# EAGLE library part NRF5340 (library balto)
NRF5340
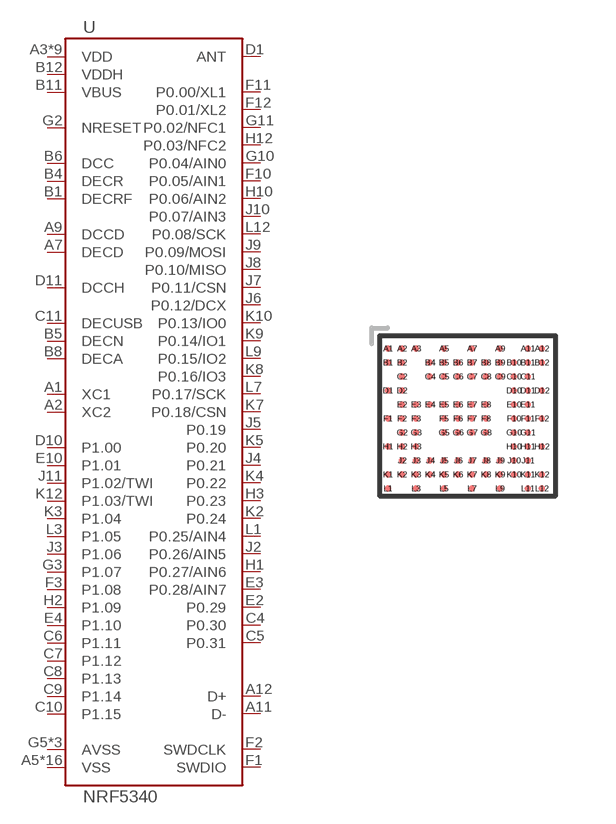
[diagram p85: symbol with the pads of NRF5340-WLCSP; footprint NRF5340-WLCSP]

Designator prefix U

## NRF5340-CLAA  [NRF5340-WLCSP]
A1  XC1
A2  XC2
A3  VDD
A5  VSS
A7  DECD
A9  DCCD
A11  D-
A12  D+
B1  DECRF
B2  VSS
B4  DECR
B5  DECN
B6  DCC
B7  VDD
B8  DECA
B9  VSS
B10  VDD
B11  VBUS
B12  VDDH
C2  VSS
C4  P0.30
C5  P0.31
C6  P1.11
C7  P1.12
C8  P1.13
C9  P1.14
C10  P1.15
C11  DECUSB
D1  ANT
D2  VDD
D10  P1.00
D11  DCCH
D12  VSS
E2  P0.29
E3  P0.28/AIN7
E4  P1.10
E5  VSS
E6  VSS
E7  VSS
E8  VSS
E10  P1.01
E11  VDD
F1  SWDIO
F2  SWDCLK
F3  P1.08
F5  VSS
F6  VSS
F7  VSS
F8  VSS
F10  P0.05/AIN1
F11  P0.00/XL1
F12  P0.01/XL2
G2  NRESET
G3  P1.07
G5  AVSS
G6  VSS
G7  VSS
G8  VSS
G10  P0.04/AIN0
G11  P0.02/NFC1
H1  P0.27/AIN6
H2  P1.09
H3  P0.23
H10  P0.06/AIN2
H11  VDD
H12  P0.03/NFC2
J2  P0.26/AIN5
J3  P1.06
J4  P0.21
J5  P0.19
J6  P0.12/DCX
J7  P0.11/CSN
J8  P0.10/MISO
J9  P0.09/MOSI
J10  P0.07/AIN3
J11  P1.02/TWI
K1  VDD
K2  P0.24
K3  P1.04
K4  P0.22
K5  P0.20
K6  AVSS
K7  P0.18/CSN
K8  P0.16/IO3
K9  P0.14/IO1
K10  P0.13/IO0
K11  AVSS
K12  P1.03/TWI
L1  P0.25/AIN4
L3  P1.05
L5  VDD
L7  P0.17/SCK
L9  P0.15/IO2
L11  VDD
L12  P0.08/SCK

## Footprint NRF5340-WLCSP (pad centres in mm)
nRF5340 WLCSP
smd 0.16 x 0.16: A1 -1.991,1.683; A2 -1.641,1.683; A3 -1.291,1.683; A5 -0.591,1.683; A7 0.109,1.683; A9 0.809,1.683; A11 1.509,1.683; A12 1.859,1.683; B1 -1.991,1.333; B2 -1.641,1.333; B4 -0.941,1.333; B5 -0.591,1.333; B6 -0.241,1.333; B7 0.109,1.333; B8 0.459,1.333; B9 0.809,1.333; B10 1.159,1.333; B11 1.509,1.333; B12 1.859,1.333; C2 -1.641,0.983; C4 -0.941,0.983; C5 -0.591,0.983; C6 -0.241,0.983; C7 0.109,0.983; C8 0.459,0.983; C9 0.809,0.983; C10 1.159,0.983; C11 1.509,0.983; D1 -1.991,0.633; D2 -1.641,0.633; D10 1.159,0.633; D11 1.509,0.633; D12 1.859,0.633; E2 -1.641,0.283; E3 -1.291,0.283; E4 -0.941,0.283; E5 -0.591,0.283; E6 -0.241,0.283; E7 0.109,0.283; E8 0.459,0.283; E10 1.159,0.283; E11 1.509,0.283; F1 -1.991,-0.067; F2 -1.641,-0.067; F3 -1.291,-0.067; F5 -0.591,-0.067; F6 -0.241,-0.067; F7 0.109,-0.067; F8 0.459,-0.067; F10 1.159,-0.067; F11 1.509,-0.067; F12 1.859,-0.067; G2 -1.641,-0.417; G3 -1.291,-0.417; G5 -0.591,-0.417; G6 -0.241,-0.417; G7 0.109,-0.417; G8 0.459,-0.417; G10 1.159,-0.417; G11 1.509,-0.417; H1 -1.991,-0.767; H2 -1.641,-0.767; H3 -1.291,-0.767; H10 1.159,-0.767; H11 1.509,-0.767; H12 1.859,-0.767; J2 -1.641,-1.117; J3 -1.291,-1.117; J4 -0.941,-1.117; J5 -0.591,-1.117; J6 -0.241,-1.117; J7 0.109,-1.117; J8 0.459,-1.117; J9 0.809,-1.117; J10 1.159,-1.117; J11 1.509,-1.117; K1 -1.991,-1.467; K2 -1.641,-1.467; K3 -1.291,-1.467; K4 -0.941,-1.467; K5 -0.591,-1.467; K6 -0.241,-1.467; K7 0.109,-1.467; K8 0.459,-1.467; K9 0.809,-1.467; K10 1.159,-1.467; K11 1.509,-1.467; K12 1.859,-1.467; L1 -1.991,-1.817; L3 -1.291,-1.817; L5 -0.591,-1.817; L7 0.109,-1.817; L9 0.809,-1.817; L11 1.509,-1.817; L12 1.859,-1.817